# EAGLE library part SUBMODULE_AD629_DIFFA (library Cui_Adapter)
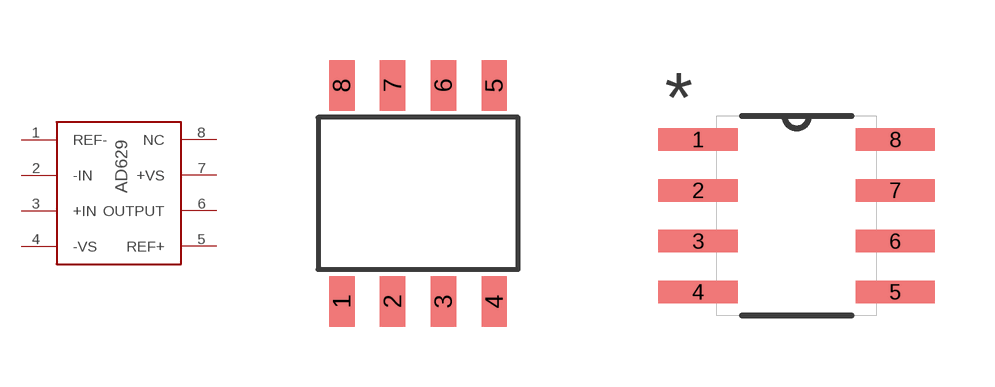
[diagram p0: symbol with the pads of SUBMODULE_AD629_DIFFA; footprints SUBMODULE_AD629_DIFFA, SUBMODULE_AD629_DIFFA_LIB]

Designator prefix -

## SUBMODULE_AD629_DIFFA  [SUBMODULE_AD629_DIFFA]
1  REF-
2  -IN
3  +IN
4  -VS
5  REF+
6  OUTPUT
7  +VS
8  NC

## SUBMODULE_AD629_DIFFAONLINE  [SUBMODULE_AD629_DIFFA_LIB]
Pads as for SUBMODULE_AD629_DIFFA

## Footprint SUBMODULE_AD629_DIFFA (pad centres in mm)
smd 0.635 x 1.27: 1 -1.905,-2.7; 2 -0.635,-2.7; 3 0.635,-2.7; 4 1.905,-2.7; 5 1.905,2.7; 6 0.635,2.7; 7 -0.635,2.7; 8 -1.905,2.7

## Footprint SUBMODULE_AD629_DIFFA_LIB (pad centres in mm)
smd 1.981 x 0.559: 1 -2.464,1.905; 2 -2.464,0.635; 3 -2.464,-0.635; 4 -2.464,-1.905; 5 2.464,-1.905; 6 2.464,-0.635; 7 2.464,0.635; 8 2.464,1.905